# EAGLE library part SE95 (library JLB6_Processor)
Temperature sensor SE95 Philips I²C
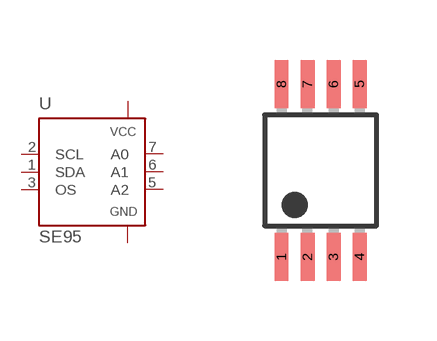
[diagram p14: symbol with the pads of TSSOP8-5; footprint TSSOP8-5]

Designator prefix U

## SE95  [TSSOP8-5]
1  SDA
2  SCL  in
3  OS
4  GND  pwr
5  A2  in
6  A1  in
7  A0  in
8  VCC  pwr

## Footprint TSSOP8-5 (pad centres in mm)
TSSOP8 5mm ou VSSOP8 (DGK texas)
smd 0.35 x 1.2: 1 -0.975,-2.163; 2 -0.325,-2.163; 3 0.325,-2.163; 4 0.975,-2.163; 5 0.975,2.163; 6 0.325,2.163; 7 -0.325,2.163; 8 -0.975,2.163